# Altium schematic symbol library XT30PW-M1_XT30PW-M.schdoc.SCHLIB: 1 symbol
Pins are listed as number, name and electrical type; pins without a type are passive.

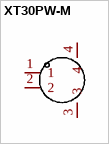
[diagram p0: symbol XT30PW-M]

## XT30PW-M
designator CN??  (value not drawn)
Add into BOM: yes; RatedVoltage: DC 500V; RatedCurrent: 15A; RecommendedWireGauge: 16/18/20AWG; specifications: 2pin; Symbol: XT30PW-M; Device: XT30PW-M; Supplier: LCSC; Supplier Part: C431092; Manufacturer Part: XT30PW-M; JLCPCB Part Class: Extended Part; Supplier Footprint: -; Datasheet: https://atta.szlcsc.com/upload/public/pdf/source/20220222/6A9F22F7850E25B33E1BE430ADF8560B.pdf; Convert to PCB: yes; Model: XT30PW-M; Power: -; Output: -; Input: -; Size: -; Interface: -; Colour: -; MaximumCurrent: -; Type1: -; NumberOfUSBHoles: -; MetalMaterial: -; InsulationMaterial: -; FlameRetardantGrade: -; Belt length: -
footprint CONN-TH_XT30PW-M
pins: 1, 2, 3, 4